# EAGLE library part D2523T (library SparkFun-RF)
D2523T GPS Module
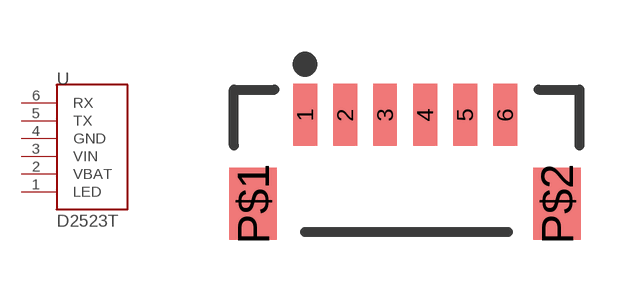
[diagram p9: symbol with the pads of EM406; footprint EM406]

Designator prefix U

## D2523T_  [EM406]
1  LED
2  VBAT
3  VIN
4  GND
5  TX
6  RX

## Footprint EM406 (pad centres in mm)
6-Pin Vertical JST Connector 1.0mm pitch JST-SH type Common interface for SparkFun GPS modules. Datasheet <http://www.sparkfun.com/datasheets/GPS/EM406-SMDConnector-eSH.pdf>
smd 0.6 x 1.55: 1 0,0; 2 1,0; 3 2,0; 4 3,0; 5 4,0; 6 5,0
smd 1.2 x 1.8: P$1 -1.3,-2.225; P$2 6.3,-2.225